# Altium footprint library TANT.PcbLib: 1 footprints
Each footprint in its own frame and in the unit in brackets; x right, y up, seen from the top. Pads: shape width x height; smd on the part's side, far side on the other; paste and mask are expansions set on the pad; w line width, h text height; cw(c..) or ccw(c..) is an arc to the next point about the centre after c.
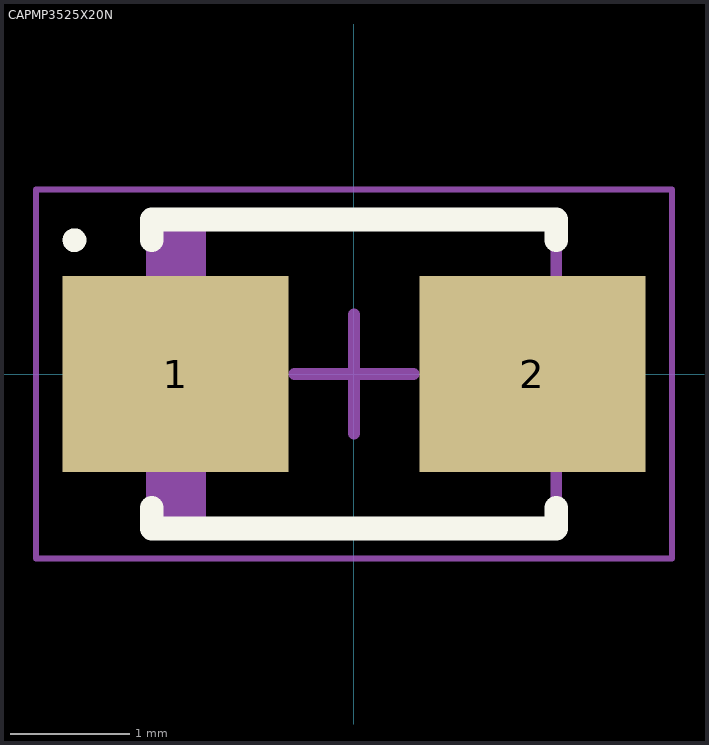
[diagram p0: the footprint, top view; thin cyan lines are the x and y axes]

## CAPMP3525X20N [mm] "Molded Capacitor, 2-Leads, Body 3.50x2.50mm, IPC Medium Density"
height 2
pads (2):
  rect 1.9x1.65 smd: 1(-1.5,0) 2(1.5,0)
Top Overlay:
  circle w0.1: c-2.35,1.125 r0.05
  lines w0.2: -1.7,-1.125 -1.7,-1.3 1.7,-1.3 1.7,-1.125 ; -1.7,1.125 -1.7,1.3 1.7,1.3 1.7,1.125
Mechanical 13:
  rectangle: -1.7,-1.3 -1.243,1.3
  lines w0.1: -1.7,-1.3 -1.7,1.3 1.7,1.3 1.7,-1.3 -1.7,-1.3
Mechanical 15:
  lines w0.05: -2.675,-1.55 -2.675,1.55 2.675,1.55 2.675,-1.55 -2.675,-1.55
  lines w0.1: -0.5,0 0.5,0 ; 0,-0.5 0,0.5
3D body: height 2, standoff 0, extent -1.7,-1.3 1.7,1.3